# EAGLE library part 87832-1420 (library EW_Connectors)
HEADER, 14WAY; Connector Type: Wire to Board; Series: 87832; Contact Material: Phosphor Bronze
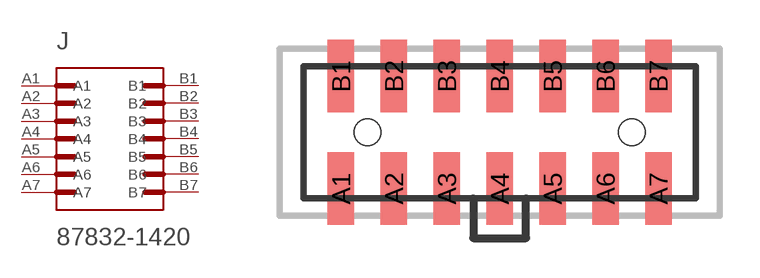
[diagram p5: symbol with the pads of MOLEX_87832-1420; footprint MOLEX_87832-1420]

Designator prefix J

## 87832-1420 (AVAILABILITY: Good; DESCRIPTION: HEADER, 14WAY; 2mm pitch; Connector Type: Wire to Board; Series: 87832; Contact Material: Phosphor Bronze; MF: Molex; MP: 87832-1420; PACKAGE: None; PRICE: 0.94 USD)  [MOLEX_87832-1420]
A1  A1  pas
A2  A2  pas
A3  A3  pas
A4  A4  pas
A5  A5  pas
A6  A6  pas
A7  A7  pas
B1  B1  pas
B2  B2  pas
B3  B3  pas
B4  B4  pas
B5  B5  pas
B6  B6  pas
B7  B7  pas

## Footprint MOLEX_87832-1420 (pad centres in mm)
smd 1 x 2.75: A1 -6,-2.125; A2 -4,-2.125; A3 -2,-2.125; A4 0,-2.125; A5 2,-2.125; A6 4,-2.125; A7 6,-2.125; B1 -6,2.125; B2 -4,2.125; B3 -2,2.125; B4 0,2.125; B5 2,2.125; B6 4,2.125; B7 6,2.125
hole 1 at -5,0
hole 1 at 5,0